# EAGLE library part RP2350A (library RP2350A)
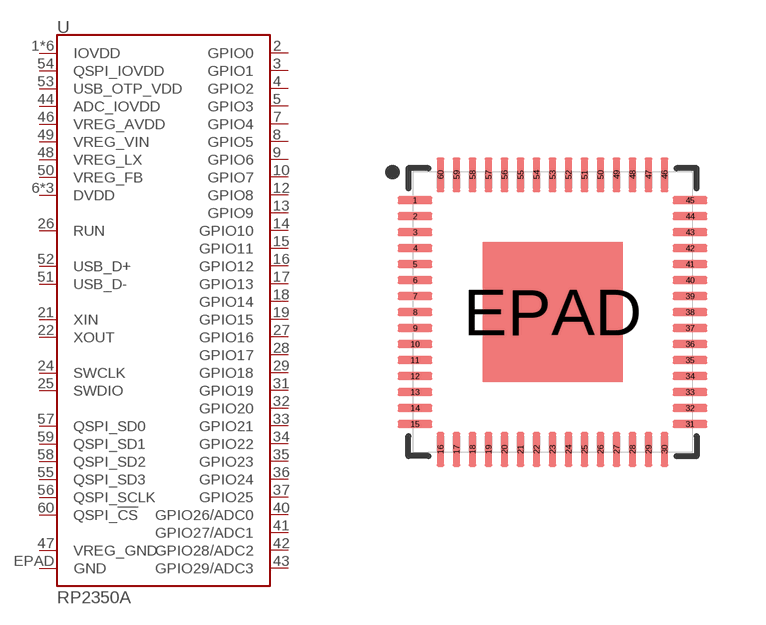
[diagram p0: symbol with the pads of RP2350A; footprint RP2350A]

Designator prefix U

## RP2350A (PROD_ID: IC-21276)  [RP2350A]
1  IOVDD
2  GPIO0
3  GPIO1
4  GPIO2
5  GPIO3
6  DVDD
7  GPIO4
8  GPIO5
9  GPIO6
10  GPIO7
11  IOVDD
12  GPIO8
13  GPIO9
14  GPIO10
15  GPIO11
16  GPIO12
17  GPIO13
18  GPIO14
19  GPIO15
20  IOVDD
21  XIN
22  XOUT
23  DVDD
24  SWCLK
25  SWDIO
26  RUN
27  GPIO16
28  GPIO17
29  GPIO18
30  IOVDD
31  GPIO19
32  GPIO20
33  GPIO21
34  GPIO22
35  GPIO23
36  GPIO24
37  GPIO25
38  IOVDD
39  DVDD
40  GPIO26/ADC0
41  GPIO27/ADC1
42  GPIO28/ADC2
43  GPIO29/ADC3
44  ADC_IOVDD
45  IOVDD
46  VREG_AVDD
47  VREG_GND
48  VREG_LX
49  VREG_VIN
50  VREG_FB
51  USB_D-
52  USB_D+
53  USB_OTP_VDD
54  QSPI_IOVDD
55  QSPI_SD3
56  QSPI_SCLK
57  QSPI_SD0
58  QSPI_SD2
59  QSPI_SD1
60  QSPI_!CS!
EPAD  GND

## Footprint RP2350A (pad centres in mm)
smd 0.875 x 0.2: 1 -3.437,2.8; 2 -3.437,2.4; 3 -3.437,2; 4 -3.437,1.6; 5 -3.437,1.2; 6 -3.437,0.8; 7 -3.437,0.4; 8 -3.437,0; 9 -3.437,-0.4; 10 -3.437,-0.8; 11 -3.437,-1.2; 12 -3.437,-1.6; 13 -3.437,-2; 14 -3.437,-2.4; 15 -3.437,-2.8; 31 3.437,-2.8; 32 3.437,-2.4; 33 3.437,-2; 34 3.437,-1.6; 35 3.437,-1.2; 36 3.437,-0.8; 37 3.437,-0.4; 38 3.437,0; 39 3.437,0.4; 40 3.437,0.8; 41 3.437,1.2; 42 3.437,1.6; 43 3.437,2; 44 3.437,2.4; 45 3.437,2.8
smd 0.2 x 0.875: 16 -2.8,-3.437; 17 -2.4,-3.437; 18 -2,-3.437; 19 -1.6,-3.437; 20 -1.2,-3.437; 21 -0.8,-3.437; 22 -0.4,-3.437; 23 0,-3.437; 24 0.4,-3.437; 25 0.8,-3.437; 26 1.2,-3.437; 27 1.6,-3.437; 28 2,-3.437; 29 2.4,-3.437; 30 2.8,-3.437; 46 2.8,3.437; 47 2.4,3.437; 48 2,3.437; 49 1.6,3.437; 50 1.2,3.437; 51 0.8,3.437; 52 0.4,3.437; 53 0,3.437; 54 -0.4,3.437; 55 -0.8,3.437; 56 -1.2,3.437; 57 -1.6,3.437; 58 -2,3.437; 59 -2.4,3.437; 60 -2.8,3.437
smd 3.5 x 3.5: EPAD 0,0